# EAGLE library part MKL02Z32VFG4 (library JL)
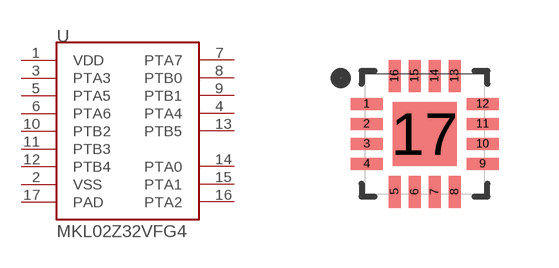
[diagram p2: symbol with the pads of QFN-16-3X3; footprint QFN-16-3X3]

Designator prefix -

## MKL02Z32VFG4  [QFN-16-3X3]
1  VDD
2  VSS
3  PTA3
4  PTA4
5  PTA5
6  PTA6
7  PTA7
8  PTB0
9  PTB1
10  PTB2
11  PTB3
12  PTB4
13  PTB5
14  PTA0
15  PTA1
16  PTA2
17  PAD

## Footprint QFN-16-3X3 (pad centres in mm)
smd 0.8 x 0.3: 1 -1.45,0.75; 2 -1.45,0.25; 3 -1.45,-0.25; 4 -1.45,-0.75; 9 1.45,-0.75; 10 1.45,-0.25; 11 1.45,0.25; 12 1.45,0.75
smd 0.3 x 0.8: 5 -0.75,-1.45; 6 -0.25,-1.45; 7 0.25,-1.45; 8 0.75,-1.45; 13 0.75,1.45; 14 0.25,1.45; 15 -0.25,1.45; 16 -0.75,1.45
smd 1.6 x 1.6: 17 0,0